# Altium schematic symbol library PRTR5V0U2X,215.Schlib: 1 symbol
Pins are listed as number, name and electrical type; pins without a type are passive.

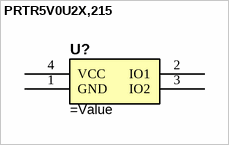
[diagram p0: symbol PRTR5V0U2X,215]

## PRTR5V0U2X,215
designator U?
TVS DIODE 5.5VWM SOT143B
pins: 1 GND, 2 IO1, 3 IO2, 4 VCC
1 alternate drawing of the same symbol